# Altium footprint library TE-1734592-8.PcbLib: 1 footprints
Each footprint in its own frame and in the unit in brackets; x right, y up, seen from the top. Pads: shape width x height; smd on the part's side, far side on the other; paste and mask are expansions set on the pad; w line width, h text height; cw(c..) or ccw(c..) is an arc to the next point about the centre after c.
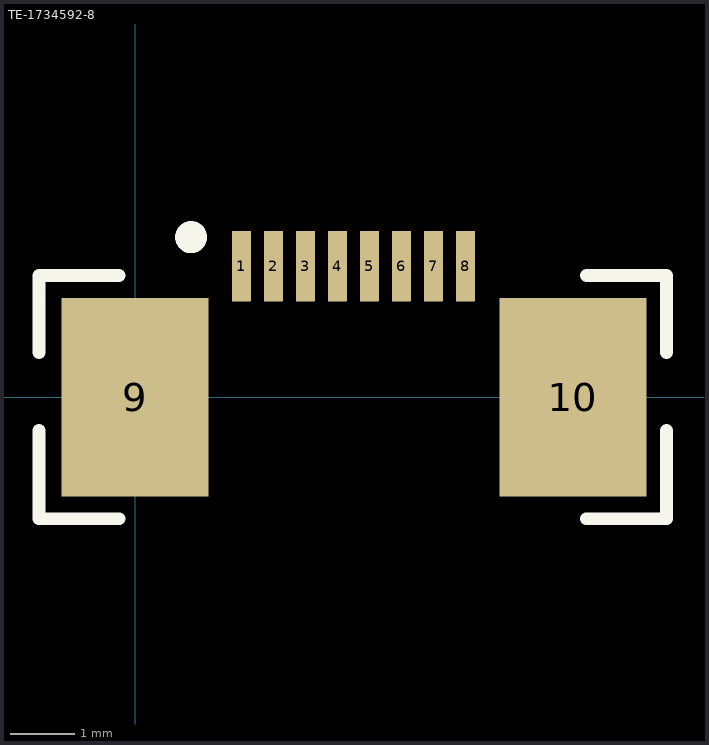
[diagram p0: the footprint, top view; thin cyan lines are the x and y axes]

## TE-1734592-8 [mm]
pads (10):
  rect 0.3x1.1 smd mask+0.051: 1(1.661,2.043) 2(2.161,2.043) 3(2.661,2.043) 4(3.161,2.043) 5(3.661,2.043) 6(4.161,2.043) 7(4.661,2.043) 8(5.161,2.043)
  rect 2.3x3.1 smd: 9(0,0) 10(6.84,0)
Top Overlay:
  circle w0.25: c0.875,2.5 r0.125
  lines w0.2: -1.5,-0.519 -1.5,-1.9 -0.25,-1.9 ; -1.5,0.7 -1.5,1.9 -0.25,1.9 ; 7.05,-1.9 8.3,-1.9 8.3,-0.519 ; 7.05,1.9 8.3,1.9 8.3,0.7
3D body: height 2.07, standoff 0.02, extent -1.311,-2.677 8.119,2.433